# EAGLE library part MCP7940N-I/ST (library Microchip-MCP7940N-I_ST)
Low-Cost I2C™ Real-Time Clock/Calendar,TSSOP-8
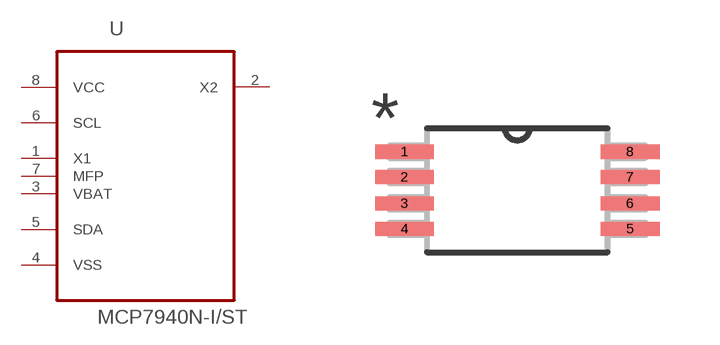
[diagram p0: symbol with the pads of SOP65P640X120-8N; footprint SOP65P640X120-8N]

Designator prefix U

## MCP7940N-I/ST (MPN: MCP7940N-I/ST; OC_FARNELL: 2361116; OC_NEWARK: 12X8717; PACKAGE: TSSOP-8; SUPPLIER: Microchip)  [SOP65P640X120-8N]
1  X1  in
2  X2  out
3  VBAT  in
4  VSS  pwr
5  SDA
6  SCL  in
7  MFP  in
8  VCC  pwr

## Footprint SOP65P640X120-8N (pad centres in mm)
smd 1.473 x 0.356: 1 -2.819,0.965; 2 -2.819,0.33; 3 -2.819,-0.33; 4 -2.819,-0.965; 5 2.819,-0.965; 6 2.819,-0.33; 7 2.819,0.33; 8 2.819,0.965